# Altium schematic symbol library PHB.SchLib: 14 symbols
Pins are listed as number, name and electrical type; pins without a type are passive.

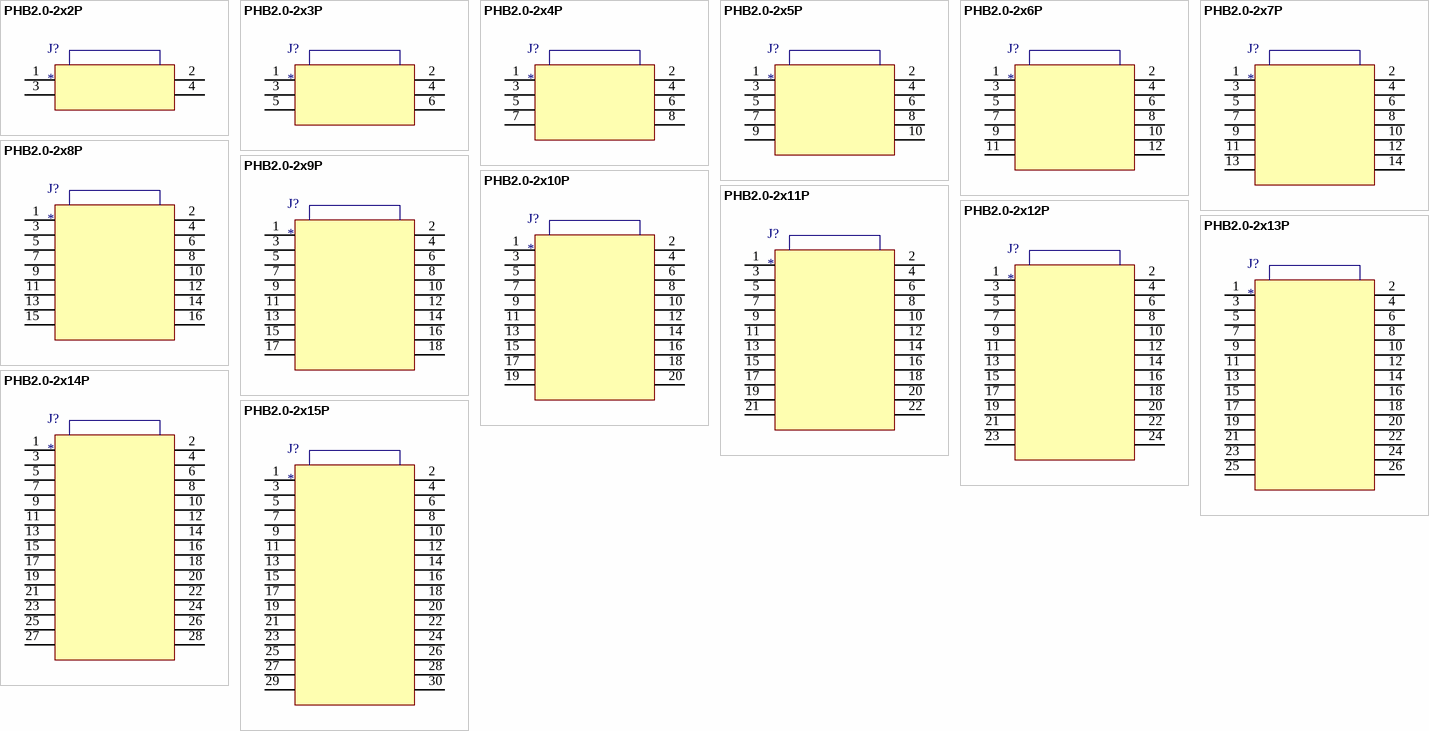
[diagram p0: symbols PHB2.0-2x2P to PHB2.0-2x15P]

## PHB2.0-2x2P
designator J?
footprint PHB2.0-2x2P
pins: 1, 2, 3, 4

## PHB2.0-2x3P
designator J?
footprint PHB2.0-2x3P
pins: 1, 2, 3, 4, 5, 6

## PHB2.0-2x4P
designator J?
footprint PHB2.0-2x4P
pins: 1, 2, 3, 4, 5, 6, 7, 8

## PHB2.0-2x5P
designator J?
footprint PHB2.0-2x5P
pins: 1, 2, 3, 4, 5, 6, 7, 8, 9, 10

## PHB2.0-2x6P
designator J?
footprint PHB2.0-2x6P
pins: 1, 2, 3, 4, 5, 6, 7, 8, 9, 10, 11, 12

## PHB2.0-2x7P
designator J?
footprint PHB2.0-2x7P
pins: 1, 2, 3, 4, 5, 6, 7, 8, 9, 10, 11, 12, 13, 14

## PHB2.0-2x8P
designator J?
footprint PHB2.0-2x8P
pins: 1, 2, 3, 4, 5, 6, 7, 8, 9, 10, 11, 12, 13, 14, 15, 16

## PHB2.0-2x9P
designator J?
footprint PHB2.0-2x9P
pins: 1, 2, 3, 4, 5, 6, 7, 8, 9, 10, 11, 12, 13, 14, 15, 16, 17, 18

## PHB2.0-2x10P
designator J?
footprint PHB2.0-2x10P
pins: 1, 2, 3, 4, 5, 6, 7, 8, 9, 10, 11, 12, 13, 14, 15, 16, 17, 18, 19, 20

## PHB2.0-2x11P
designator J?
footprint PHB2.0-2x11P
pins: 1, 2, 3, 4, 5, 6, 7, 8, 9, 10, 11, 12, 13, 14, 15, 16, 17, 18, 19, 20, 21, 22

## PHB2.0-2x12P
designator J?
footprint PHB2.0-2x12P
pins: 1, 2, 3, 4, 5, 6, 7, 8, 9, 10, 11, 12, 13, 14, 15, 16, 17, 18, 19, 20, 21, 22, 23, 24

## PHB2.0-2x13P
designator J?
footprint PHB2.0-2x13P
pins: 1, 2, 3, 4, 5, 6, 7, 8, 9, 10, 11, 12, 13, 14, 15, 16, 17, 18, 19, 20, 21, 22, 23, 24, 25, 26

## PHB2.0-2x14P
designator J?
footprint PHB2.0-2x14P
pins: 1, 2, 3, 4, 5, 6, 7, 8, 9, 10, 11, 12, 13, 14, 15, 16, 17, 18, 19, 20, 21, 22, 23, 24, 25, 26, 27, 28

## PHB2.0-2x15P
designator J?
footprint PHB2.0-2x15P
pins: 1, 2, 3, 4, 5, 6, 7, 8, 9, 10, 11, 12, 13, 14, 15, 16, 17, 18, 19, 20, 21, 22, 23, 24, 25, 26, 27, 28, 29, 30